# Altium footprint library sbattery.PcbLib: 10 footprints
Each footprint in its own frame and in the unit in brackets; x right, y up, seen from the top. Pads: shape width x height; smd on the part's side, far side on the other; paste and mask are expansions set on the pad; w line width, h text height; cw(c..) or ccw(c..) is an arc to the next point about the centre after c.
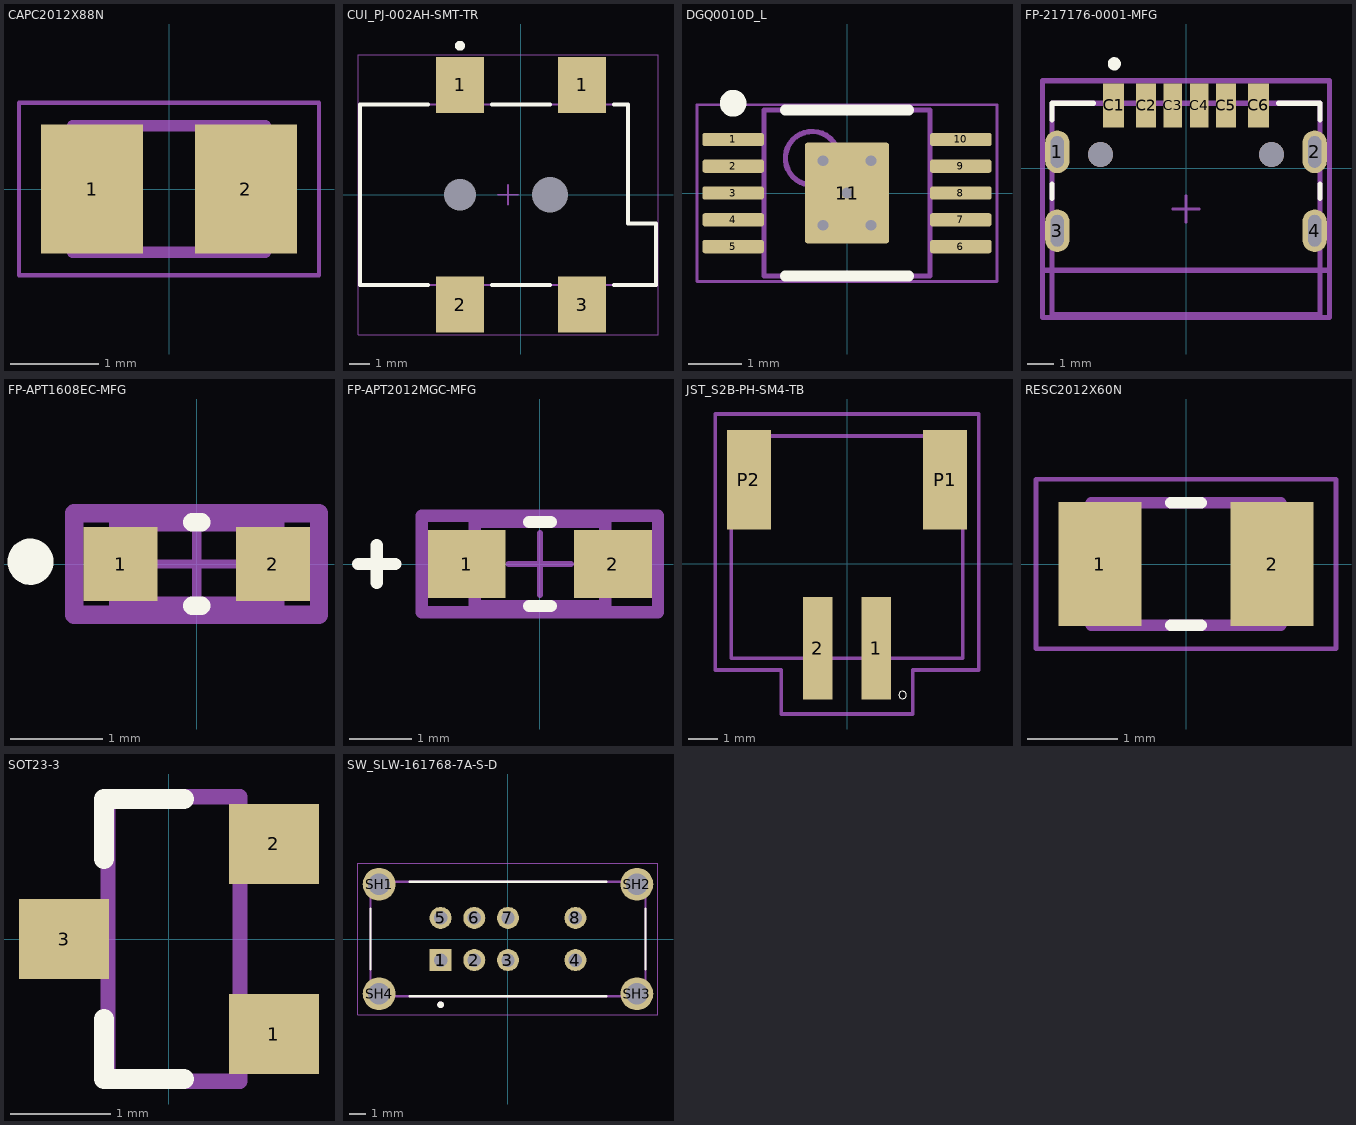
[diagram p0: the footprints below, top view; thin cyan lines are the x and y axes]

## CAPC2012X88N [mm]
pads (2):
  rect 1.16x1.47 smd: 1(-0.875,0) 2(0.875,0)
Mechanical 13:
  lines w0.127: -1.1,-0.72 -1.1,0.72 1.1,0.72 1.1,-0.72 -1.1,-0.72
Mechanical 15:
  lines w0.05: -1.708,-0.983 -1.708,0.983 1.708,0.983 1.708,-0.983 -1.708,-0.983
3D body "step_temp.STEP": height 1.4, standoff 0, extent -1.016,-0.635 1.016,0.635

## CUI_PJ-002AH-SMT-TR [mm]
pads (6):
  rect 2.4x2.8 smd: 1(-3.05,5.5) 1(3.05,5.5) 2(-3.05,-5.5) 3(3.05,-5.5)
  round 0 hole 1.6: MH1(-3.05,0)
  round 0 hole 1.8: MH2(1.45,0)
Top Overlay:
  circle w0.25: c-3.05,7.45 r0.125
  lines w0.2: -4.65,-4.5 -8.05,-4.5 -8.05,4.5 -4.65,4.5 ; -1.45,-4.5 1.45,-4.5 ; -1.45,4.5 1.45,4.5 ; 4.65,-4.5 6.75,-4.5 6.75,-1.45 5.35,-1.45 5.35,4.5 4.65,4.5
Mechanical 13:
  lines w0.1: -8.05,-4.5 -8.05,4.5 5.35,4.5 5.35,-1.45 6.75,-1.45 6.75,-4.5 -8.05,-4.5
Mechanical 15:
  lines w0.05: -8.15,-7 -8.15,7 6.85,7 6.85,-7 -8.15,-7
  lines w0.1: -1.15,0 -0.15,0 ; -0.65,-0.5 -0.65,0.5
3D body "pj-002ah-smt.stp": height 11.2, standoff -1, extent -8.05,-6.3 6.75,6.3

## DGQ0010D_L [mm]
pads (11):
  rrect40% 1.15x0.25 smd: 1(-2.125,1) 2(-2.125,0.5) 3(-2.125,0) 4(-2.125,-0.5) 5(-2.125,-1) 6(2.125,-1) 7(2.125,-0.5) 8(2.125,0) 9(2.125,0.5) 10(2.125,1)
  rrect6% 1.57x1.88 smd: 11(0,0)
via 0,0 diameter 0.5 hole 0.2
via 0.45,0.6 diameter 0.5 hole 0.2
via 0.45,-0.6 diameter 0.5 hole 0.2
via -0.45,-0.6 diameter 0.5 hole 0.2
via -0.45,0.6 diameter 0.5 hole 0.2
Top Overlay:
  circle w0.25: c-2.125,1.675 r0.125
  lines w0.2: -1.15,-1.55 1.15,-1.55 ; -1.15,1.55 1.15,1.55
Mechanical 1:
  text ".Designator" at -1.397,-0.254 h0.7
Mechanical 13:
  circle w0.1: c-0.65,0.65 r0.5
  lines w0.1: -1.55,-1.55 -1.55,1.55 1.55,1.55 1.55,-1.55 -1.55,-1.55
Mechanical 15:
  lines w0.05: -2.8,-1.65 -2.8,1.65 2.8,1.65 2.8,-1.65 -2.8,-1.65
  lines w0.1: -0.5,0 0.5,0 ; 0,-0.5 0,0.5
3D body "DGQ0010.stp": height 0.94, standoff -0.02, extent -2.451,-1.499 2.451,1.499

## FP-217176-0001-MFG [mm]
pads (12):
  rrect100% 0.92x1.62 hole 1.2 slot 0.5 at 0 deg paste-2539.97 mask+0: 1(-4.895,0.618) 2(4.895,0.618) 3(-4.895,-2.382) 4(4.895,-2.382)
  rect 0.8x1.67 smd paste+0 mask+0: C1(-2.75,2.383) C6(2.75,2.383)
  rect 0.76x1.67 smd paste+0 mask+0: C2(-1.52,2.383) C5(1.52,2.383)
  rect 0.7x1.67 smd paste+0 mask+0: C3(-0.5,2.383) C4(0.5,2.383)
  round 0.95 hole 0.95 unplated paste-2539.97 mask+0: ""(-3.25,0.518) ""(3.25,0.518)
Top Overlay:
  circle w0.25: c-2.725,3.968 r0.125
  lines w0.2: -5.1,-1.157 -5.1,-0.607 ; -5.1,1.843 -5.1,2.468 -3.525,2.468 ; 3.525,2.468 5.1,2.468 5.1,1.843 ; 5.1,-1.157 5.1,-0.607
Top 3D Body:
  lines w0.2: -5.455,-3.882 5.455,-3.882 ; -5.1,-5.582 -5.1,2.468 5.1,2.468 5.1,-5.582 -5.1,-5.582
Board:
  lines w0.2: -5.455,-5.682 -5.455,3.318 5.455,3.318 5.455,-5.682 -5.455,-5.682
Top Assembly:
  lines w0.2: -5.455,-5.682 -5.455,3.318 5.455,3.318 5.455,-5.682 -5.455,-5.682
  text ".Designator" at 0,-1.183 h1
Top Component Center:
  lines w0.1: -0.5,-1.557 0.5,-1.557 ; 0,-2.057 0,-1.057
3D body "Conn_Molex_217176-0001_eec.STEP": height 0.25, standoff 0, extent -5.455,-5.682 5.455,3.318

## FP-APT1608EC-MFG [mm]
pads (2):
  rect 0.8x0.8 smd paste+0 mask+0: 1(-0.825,0) 2(0.825,0)
Top Overlay:
  circle w0.25: c-1.8,0.025 r0.125
  lines w0.2: -0.05,-0.45 0.05,-0.45 ; -0.05,0.45 0.05,0.45
Top 3D Body:
  lines w0.2: -0.85,-0.45 0.85,-0.45 0.85,0.45 -0.85,0.45 -0.85,-0.45
Board:
  lines w0.2: -1.325,-0.55 1.325,-0.55 1.325,0.55 -1.325,0.55 -1.325,-0.55
Top Assembly:
  lines w0.2: -1.325,-0.55 1.325,-0.55 1.325,0.55 -1.325,0.55 -1.325,-0.55
  text ".Designator" at 0,-0.001 h1
Top Component Center:
  lines w0.1: -0.5,0 0.5,0 ; 0,-0.5 0,0.5
3D body "Diode_Kingbright_APT1608EC_eec.STEP": height 0.25, standoff 0, extent -1.325,-0.55 1.325,0.55

## FP-APT2012MGC-MFG [mm]
pads (2):
  rect 1.25x1.1 smd paste+0 mask+0: 1(-1.175,0) 2(1.175,0)
Top Overlay:
  lines w0.2: -2.925,0 -2.325,0 ; -2.625,-0.3 -2.625,0.3 ; -0.175,-0.675 0.175,-0.675 ; -0.175,0.675 0.175,0.675
Top 3D Body:
  lines w0.2: -1.05,-0.675 -1.05,0.675 1.05,0.675 1.05,-0.675 -1.05,-0.675
Board:
  lines w0.2: -1.9,-0.775 -1.9,0.775 1.9,0.775 1.9,-0.775 -1.9,-0.775
Top Assembly:
  lines w0.2: -1.9,-0.775 -1.9,0.775 1.9,0.775 1.9,-0.775 -1.9,-0.775
  text ".Designator" at 0,-0.001 h1
Top Component Center:
  lines w0.1: -0.5,0 0.5,0 ; 0,-0.5 0,0.5
3D body "Diode_Kingbright_APT2012MGC_eec.STEP": height 0.25, standoff 0, extent -1.9,-0.775 1.9,0.775

## JST_S2B-PH-SM4-TB [mm]
pads (4):
  rect 1x3.5 smd: 1(1,-2.875) 2(-1,-2.875)
  rect 1.5x3.4 smd: P1(3.35,2.875) P2(-3.35,2.875)
Top Overlay:
  circle w0: c1.9,-4.475 r0.127
Mechanical 13:
  lines w0.127: -3.95,-3.225 -3.95,4.375 3.95,4.375 3.95,-3.225 -3.95,-3.225
Mechanical 15:
  lines w0.127: -4.5,-3.625 -4.5,5.125 4.5,5.125 4.5,-3.625 2.25,-3.625 2.25,-5.125 -2.25,-5.125 -2.25,-3.625 -4.5,-3.625
3D body "step_temp.STEP": height 5.5, standoff -0.1, extent -3.95,-2.875 3.95,5.725

## RESC2012X60N [mm]
pads (2):
  rect 0.92x1.38 smd: 1(-0.955,0) 2(0.955,0)
Top Overlay:
  lines w0.127: -0.17,-0.68 0.17,-0.68 ; -0.17,0.68 0.17,0.68
Mechanical 13:
  lines w0.127: -1.05,-0.68 -1.05,0.68 1.05,0.68 1.05,-0.68 -1.05,-0.68
Mechanical 15:
  lines w0.05: -1.665,-0.94 -1.665,0.94 1.665,0.94 1.665,-0.94 -1.665,-0.94
3D body "step_temp.STEP": height 0.6, standoff 0, extent -1,-0.625 1,0.625

## SOT23-3 [mm]
pads (3):
  rect 0.9x0.8 smd: 1(1.05,-0.95) 2(1.05,0.95) 3(-1.05,0)
Top Overlay:
  lines w0.203: -0.65,-0.8 -0.65,-1.4 0.15,-1.4 ; -0.65,0.8 -0.65,1.4 0.15,1.4
Mechanical 13:
  lines w0.152: -0.61,-1.422 0.71,-1.422 0.71,1.422 -0.61,1.422 -0.61,-1.422
3D body "step_temp.STEP": height 1.25, standoff 0, extent -1.4,-1.45 1.4,1.45

## SW_SLW-161768-7A-S-D [mm]
pads (12):
  rect 1.308x1.308 / inner round 1.308 / far side rect 1.308x1.308 hole 0.8 mask+0.102: 1(-4,-1.25)
  round 1.308 hole 0.8 mask+0.102: 2(-2,-1.25) 3(0,-1.25) 4(4,-1.25) 5(-4,1.25) 6(-2,1.25) 7(0,1.25) 8(4,1.25)
  round 1.95 hole 1.3 mask+0.102: SH1(-7.65,3.25) SH2(7.65,3.25) SH3(7.65,-3.25) SH4(-7.65,-3.25)
Top Overlay:
  circle w0.2: c-4,-3.9 r0.1
  lines w0.127: -8.15,-1.8 -8.15,1.8 ; -5.85,-3.4 5.85,-3.4 ; -5.85,3.4 5.85,3.4 ; 8.15,-1.8 8.15,1.8
Mechanical 13:
  circle w0.2: c-4,-3.9 r0.1
  lines w0.127: -8.15,-3.4 -8.15,3.4 8.15,3.4 8.15,-3.4 -8.15,-3.4
Mechanical 15:
  lines w0.05: -8.9,-4.5 -8.9,4.5 8.9,4.5 8.9,-4.5 -8.9,-4.5
3D body "step_temp.STEP": height 12.92, standoff -12.18, extent -7.886,-3.5 8.414,3.5